# EAGLE library part M95M02-D (library Memory)
IC EEPROM 2MB SPI DR Datesheet <http://www.st.com/web/en/resource/technical/document/datasheet/CD00290531.pdf> DW Datesheet <http://www.st.com/content/ccc/resource/technical/document/datasheet/d4/20/53/1a/4b/a1/41/96/DM00132783.pdf/files/DM00132783.pdf/jcr:content/translations/en.DM00132783.pdf>
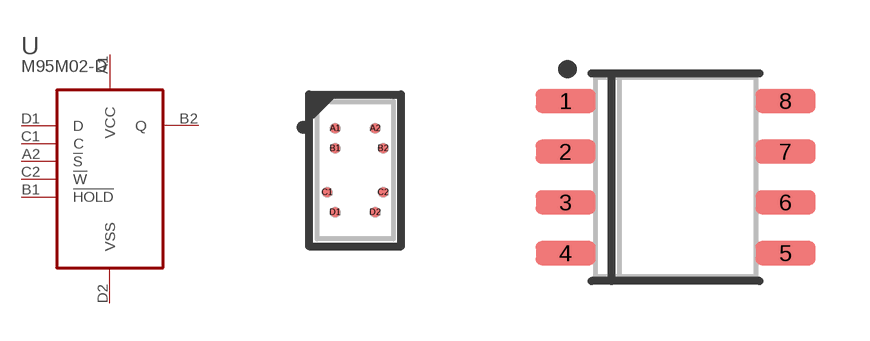
[diagram p10: symbol with the pads of WLCSP-8-M95M02; footprints WLCSP-8-M95M02, S08N]

Designator prefix U

## M95M02-DCS (PARTNO: 01-100525-00)  [WLCSP-8-M95M02]
A1  VCC  pwr
A2  !S  in
B1  !HOLD  in
B2  Q  out
C1  C  in
C2  !W  in
D1  D  in
D2  VSS  pwr

## M95M02-DRMN (DATASHEET: http://www.st.com/content/ccc/resource/technical/document/datasheet/d4/20/53/1a/4b/a1/41/96/DM00132783.pdf/files/DM00132783.pdf/jcr:content/translations/en.DM00132783.pdf; DESC: IC EEPROM 2MBIT 5MHZ 8SO; MANF: STMicroelectronics; MEM: 2Mb; MFPN: M95M02-DRMN6; PARTNO: 01-100538-00; SPEED: 5MHz; STATUS: Active; TEMP: -40°C ~ 85°C (TA); TYPE: Non-Volitile EEPROM; VSUP: 1.8 V ~ 5.5 V), M95M02-DWMN (DATASHEET: http://www.st.com/content/ccc/resource/technical/document/datasheet/d4/20/53/1a/4b/a1/41/96/DM00132783.pdf/files/DM00132783.pdf/jcr:content/translations/en.DM00132783.pdf; DESC: IC EEPROM 2MBIT 10MHZ 8SOIC; MANF: STMicroelectronics; MEM: 2Mb; MFPN: M95M02-DWMN; PARTNO: 01-100560-00; SPEED: 10MHz; STATUS: Active; TEMP: -40°C ~ 125°C (TA); TYPE: Non-Volitile EEPROM; VSUP: 2.5 V ~ 5.5 V)  [S08N]
1  !S  in
2  Q  out
3  !W  in
4  VSS  pwr
5  D  in
6  C  in
7  !HOLD  in
8  VCC  pwr

## Footprint WLCSP-8-M95M02 (pad centres in mm)
ST WLCSP-8, 8-Leads, Body 2.01x3.56mmx0.58mm, Pitch 0.50mm, Height .58mm
smd 0.24 x 0.24: A1 -0.5,1.05; A2 0.5,1.05; B1 -0.5,0.55; B2 0.7,0.55; C1 -0.7,-0.55; C2 0.7,-0.55; D1 -0.5,-1.05; D2 0.5,-1.05

## Footprint S08N (pad centres in mm)
SO8N - 8-Lead Plastic Small Outline 150 mils body
smd 1.5 x 0.6: 1 -2.75,1.905; 2 -2.75,0.635; 3 -2.75,-0.635; 4 -2.75,-1.905; 5 2.75,-1.905; 6 2.75,-0.635; 7 2.75,0.635; 8 2.75,1.905